# Altium schematic symbol library EEUFC0J101.SchLib: 2 symbols
Pins are listed as number, name and electrical type; pins without a type are passive.

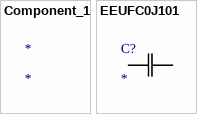
[diagram p0: symbols Component_1 to EEUFC0J101]

## Component_1
designator *

## EEUFC0J101
designator C?
No Description Available; Mfr_Name: Panasonic
footprint CAP_5 X 11_PAN
pins: 1, 2